# Altium schematic symbol library JD_Amplifier.SchLib: 1 symbol
Pins are listed as number, name and electrical type; pins without a type are passive.

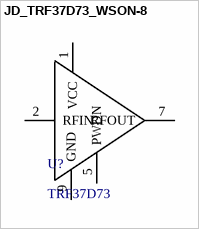
[diagram p0: symbol JD_TRF37D73_WSON-8]

## JD_TRF37D73_WSON-8
designator U?, comment TRF37D73
footprint JD_WSON-8
pins: 1 VCC, 2 RFIN, 5 PWDN, 7 RFOUT, 9 GND